# Altium schematic symbol library Schlib.SchLib: 24 symbols
Pins are listed as number, name and electrical type; pins without a type are passive.

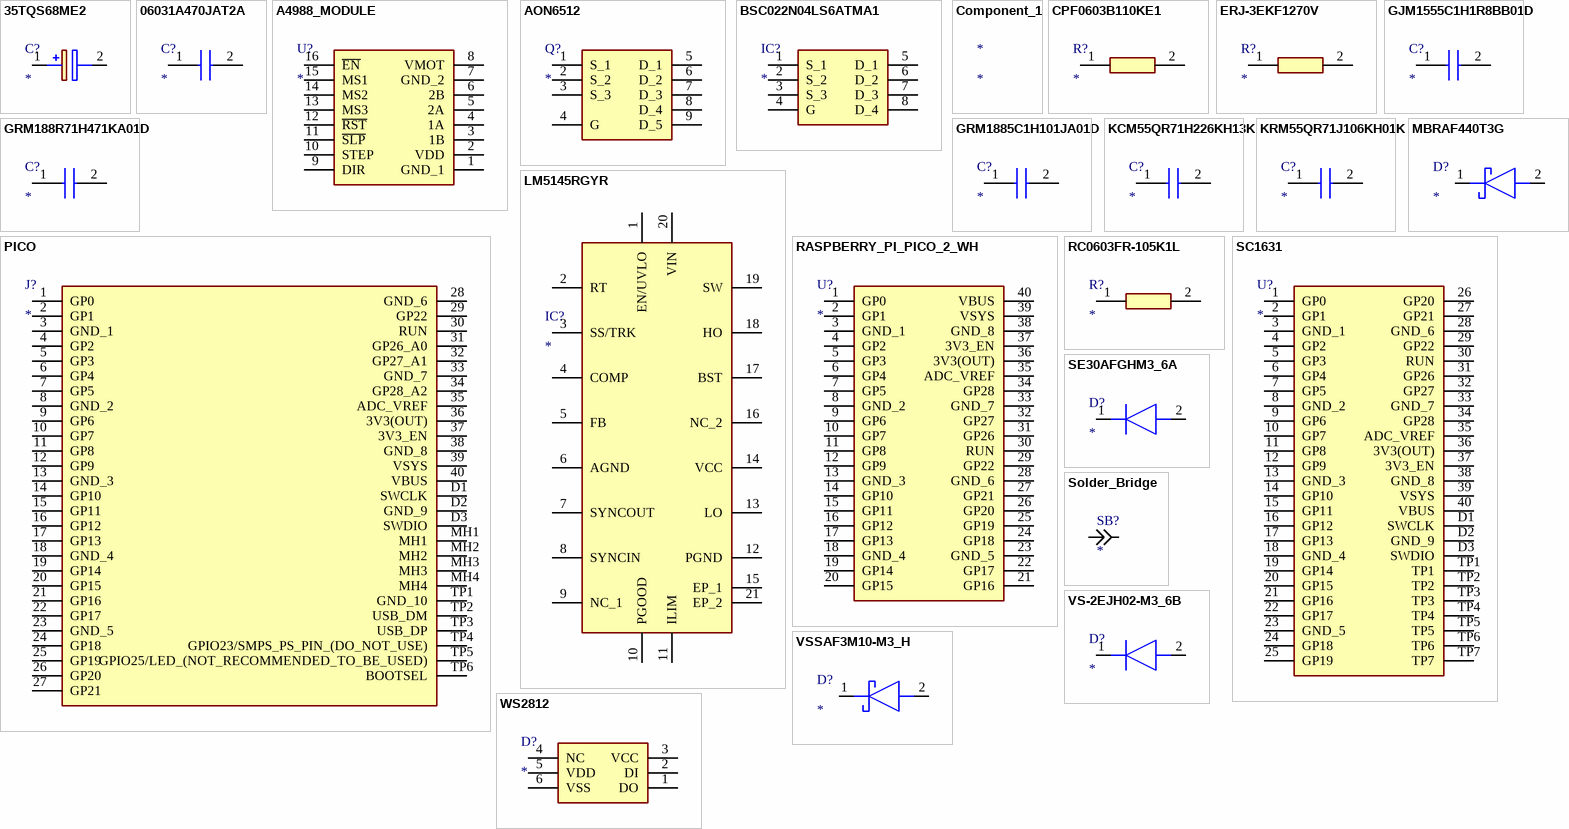
[diagram p0: symbols 35TQS68ME2 to WS2812]

## 35TQS68ME2
designator C?
Capacitor Polarised; Manufacturer_Name: Panasonic; Manufacturer_Part_Number: 35TQS68ME2; Datasheet Link: https://industrial.panasonic.com/cdbs/www-data/pdf/AAA8000/AAA8000C80.pdf; Height: 2mm; Simulation Data: https://industrial.panasonic.com/content/data/CP/files/35TQS68ME2.zip
footprint 35TQS68ME2
pins: 1 +, 2 -

## 06031A470JAT2A
designator C?
Capacitor; Manufacturer_Name: Kyocera AVX; Manufacturer_Part_Number: 06031A470JAT2A; Datasheet Link: https://componentsearchengine.com/Datasheets/1/06031A100FAT2A.pdf; Height: 0.9mm; Mouser Part Number: 581-06031A470J; Mouser Price/Stock: https://www.mouser.co.uk/ProductDetail/AVX/06031A470JAT2A?qs=nNiE93Mz5OcjglFzY7DsjQ%3D%3D; Arrow Part Number: 06031A470JAT2A; Arrow Price/Stock: https://www.arrow.com/en/products/06031a470jat2a/avx
footprint CAPC1608X90N
pins: 1, 2

## A4988_MODULE
designator U?
Undefined or Miscellaneous; Manufacturer_Name: Pololu; Manufacturer_Part_Number: A4988 MODULE; Datasheet Link: https://www.pololu.com/file/0J1082/a4988-stepper-motor-driver-carrier-dimension-diagram.pdf; Height: 3.37mm
footprint A4988MODULE
pins: 1 GND_1, 2 VDD, 3 1B, 4 1A, 5 2A, 6 2B, 7 GND_2, 8 VMOT, 9 DIR, 10 STEP, 11 ~{SLP}, 12 ~{RST}, 13 MS3, 14 MS2, 15 MS1, 16 ~{EN}

## AON6512
designator Q?
MOSFET (P-Channel); Manufacturer_Name: Alpha & Omega Semiconductors; Manufacturer_Part_Number: AON6512; Datasheet Link: http://aosmd.com/res/data_sheets/AON6512.pdf; Arrow Part Number: AON6512; Arrow Price/Stock: https://www.arrow.com/en/products/aon6512/alpha-and-omega-semiconductor?region=nac
footprint AON6414A
pins: 1 S_1, 2 S_2, 3 S_3, 4 G, 5 D_1, 6 D_2, 7 D_3, 8 D_4, 9 D_5

## BSC022N04LS6ATMA1
designator IC?
Integrated Circuit; Manufacturer_Part_Number: BSC022N04LS6ATMA1; Description: Infineon; Datasheet Link: https://www.infineon.com/dgdl/Infineon-BSC022N04LS6-DS-v02_00-EN.pdf?fileId=5546d462689a790c0168bd1094dc481b; Manufacturer_Name: Infineon; Mouser Part Number: 726-BSC022N04LS6ATMA; Mouser Price/Stock: https://www.mouser.co.uk/ProductDetail/Infineon-Technologies/BSC022N04LS6ATMA1?qs=l7cgNqFNU1izYC0x3qYbsQ%3D%3D; Arrow Part Number: BSC022N04LS6ATMA1; Arrow Price/Stock: https://www.arrow.com/en/products/bsc022n04ls6atma1/infineon-technologies-ag?region=nac
footprint BSC059N04LS6ATMA1
pins: 1 S_1, 2 S_2, 3 S_3, 4 G, 5 D_1, 6 D_2, 7 D_3, 8 D_4

## Component_1
designator *

## CPF0603B110KE1
designator R?
Resistor; Manufacturer_Name: TE Connectivity; Manufacturer_Part_Number: CPF0603B110KE1; Datasheet Link: http://www.farnell.com/datasheets/1786775.pdf; Height: 0.55mm; Mouser Part Number: 279-CPF0603B110KE1; Mouser Price/Stock: https://www.mouser.com/Search/Refine.aspx?Keyword=279-CPF0603B110KE1
footprint RESC1608X55N
pins: 1, 2

## ERJ-3EKF1270V
designator R?
Resistor; Manufacturer_Name: Panasonic; Manufacturer_Part_Number: ERJ-3EKF1270V; Datasheet Link: http://industrial.panasonic.com/cdbs/www-data/pdf/RDA0000/AOA0000C86.pdf; Height: 0.55mm; Mouser Part Number: 667-ERJ-3EKF1270V; Mouser Price/Stock: https://www.mouser.co.uk/ProductDetail/Panasonic/ERJ-3EKF1270V?qs=iBwFsHVUAOcgnyLg6A6PxQ%3D%3D; Arrow Part Number: ERJ-3EKF1270V; Arrow Price/Stock: https://www.arrow.com/en/products/erj3ekf1270v/panasonic
footprint RESC1608X55N
pins: 1, 2

## GJM1555C1H1R8BB01D
designator C?
Capacitor; Manufacturer_Name: Murata Electronics; Manufacturer_Part_Number: GJM1555C1H1R8BB01D; Datasheet Link: https://search.murata.co.jp/Ceramy/image/img/A01X/G101/ENG/GJM1555C1H1R8BB01-01A.pdf; Height: 0.55mm; Mouser Part Number: 81-GJM1555C1H1R8BB01; Mouser Price/Stock: https://www.mouser.co.uk/ProductDetail/Murata-Electronics/GJM1555C1H1R8BB01D?qs=uMOEPI8dpz3WIjWI0mj0rg%3D%3D; Arrow Part Number: GJM1555C1H1R8BB01D; Arrow Price/Stock: https://www.arrow.com/en/products/gjm1555c1h1r8bb01d/murata-manufacturing
footprint CAPC1005X55N
pins: 1, 2

## GRM188R71H471KA01D
designator C?
Capacitor; Manufacturer_Name: Murata Electronics; Manufacturer_Part_Number: GRM188R71H471KA01D; Datasheet Link: https://search.murata.co.jp/Ceramy/image/img/A01X/G101/ENG/GRM188R71H471KA01-01.pdf; Height: 0.9mm; Mouser Part Number: 81-GRM39X471K50D; Mouser Price/Stock: https://www.mouser.co.uk/ProductDetail/Murata-Electronics/GRM188R71H471KA01D?qs=WWniysbtxUL3ibKlWJP%2Fxg%3D%3D; Arrow Part Number: GRM188R71H471KA01D; Arrow Price/Stock: https://www.arrow.com/en/products/grm188r71h471ka01d/murata-manufacturing
footprint CAPC1608X90N
pins: 1, 2

## GRM1885C1H101JA01D
designator C?
Capacitor; Manufacturer_Name: Murata Electronics; Manufacturer_Part_Number: GRM1885C1H101JA01D; Datasheet Link: https://search.murata.co.jp/Ceramy/image/img/A01X/G101/ENG/GRM1885C1H101JA01-01A.pdf; Height: 0.9mm; Mouser Part Number: 81-GRM39C101J50; Mouser Price/Stock: https://www.mouser.co.uk/ProductDetail/Murata-Electronics/GRM1885C1H101JA01D?qs=H3lwsW1hsDt1I4guwPQ00A%3D%3D; Arrow Part Number: GRM1885C1H101JA01D; Arrow Price/Stock: https://www.arrow.com/en/products/grm1885c1h101ja01d/murata-manufacturing?utm_currency=USD&region=europe
footprint CAPC1608X90N
pins: 1, 2

## KCM55QR71H226KH13K
designator C?
Capacitor; Manufacturer_Name: Murata Electronics; Manufacturer_Part_Number: KCM55QR71H226KH13K; Datasheet Link: https://search.murata.co.jp/Ceramy/image/img/A01X/G101/ENG/KCM55_E.pdf; Height: 3.9mm; Mouser Part Number: 81-KCM5QR71H226KH13K; Mouser Price/Stock: https://www.mouser.co.uk/ProductDetail/Murata-Electronics/KCM55QR71H226KH13K?qs=By6Nw2ByBD05%2F38SiX9q2w%3D%3D; Arrow Part Number: KCM55QR71H226KH13K; Arrow Price/Stock: https://www.arrow.com/en/products/kcm55qr71h226kh13k/murata-manufacturing?region=nac
footprint CAPC6153X390N
pins: 1, 2

## KRM55QR71J106KH01K
designator C?
Capacitor; Manufacturer_Name: Murata Electronics; Manufacturer_Part_Number: KRM55QR71J106KH01K; Datasheet Link: https://search.murata.co.jp/Ceramy/image/img/A01X/G101/ENG/KRM55_25V-100V_E.pdf; Height: 3.9mm; Mouser Part Number: 81-KRM55QR71J106KH1K; Mouser Price/Stock: https://www.mouser.co.uk/ProductDetail/Murata-Electronics/KRM55QR71J106KH01K?qs=TpyF2b7C1Q%252BAGaaMhvrt1g%3D%3D; Arrow Part Number: KRM55QR71J106KH01K; Arrow Price/Stock: https://www.arrow.com/en/products/krm55qr71j106kh01k/murata-manufacturing
footprint CAPC6153X390N
pins: 1, 2

## LM5145RGYR
designator IC?
Integrated Circuit; Manufacturer_Name: Texas Instruments; Manufacturer_Part_Number: LM5145RGYR; Datasheet Link: http://www.ti.com/lit/ds/symlink/lm5145.pdf?HQS=TI-null-null-mousermode-df-pf-null-wwe&DCM=yes&ref_url=https%3A%2F%2Fwww.mouser.com%2F; Mouser Part Number: 595-LM5145RGYR; Mouser Price/Stock: https://www.mouser.co.uk/ProductDetail/Texas-Instruments/LM5145RGYR?qs=gt1LBUVyoHkKVoSLabi7ZQ%3D%3D; Arrow Part Number: LM5145RGYR; Arrow Price/Stock: https://www.arrow.com/en/products/lm5145rgyr/texas-instruments?region=nac
footprint RGY0020B
pins: 1 EN/UVLO, 2 RT, 3 SS/TRK, 4 COMP, 5 FB, 6 AGND, 7 SYNCOUT, 8 SYNCIN, 9 NC_1, 10 PGOOD, 11 ILIM, 12 PGND, 13 LO, 14 VCC, 15 EP_1, 16 NC_2, 17 BST, 18 HO, 19 SW, 20 VIN, 21 EP_2

## MBRAF440T3G
designator D?
Schottky Diode; Manufacturer_Name: onsemi; Manufacturer_Part_Number: MBRAF440T3G; Datasheet Link: https://www.onsemi.com/pub/Collateral/MBRAF440T3-D.PDF; Height: 1.1mm; Mouser Part Number: 863-MBRAF440T3G; Mouser Price/Stock: https://www.mouser.co.uk/ProductDetail/onsemi/MBRAF440T3G?qs=l5F7KFZg3O5ru1%252BwaFeLQg%3D%3D; Arrow Part Number: MBRAF440T3G; Arrow Price/Stock: https://www.arrow.com/en/products/mbraf440t3g/on-semiconductor?region=nac
footprint SODFL5126X110N
pins: 1 K, 2 A

## PICO
designator J?
Connector; Manufacturer_Name: RASPBERRY-PI; Manufacturer_Part_Number: PICO; Datasheet Link: https://datasheets.raspberrypi.org/pico/pico_datasheet.pdf; Height: 1mm
footprint PICO
pins: 1 GP0, 2 GP1, 3 GND_1, 4 GP2, 5 GP3, 6 GP4, 7 GP5, 8 GND_2, 9 GP6, 10 GP7, 11 GP8, 12 GP9, 13 GND_3, 14 GP10, 15 GP11, 16 GP12, 17 GP13, 18 GND_4, 19 GP14, 20 GP15, 21 GP16, 22 GP17, 23 GND_5, 24 GP18, 25 GP19, 26 GP20, 27 GP21, 28 GND_6, 29 GP22, 30 RUN, 31 GP26_A0, 32 GP27_A1, 33 GND_7, 34 GP28_A2, 35 ADC_VREF, 36 3V3(OUT), 37 3V3_EN, 38 GND_8, 39 VSYS, 40 VBUS, D1 SWCLK, D2 GND_9, D3 SWDIO, MH1, MH2, MH3, MH4, TP1 GND_10, TP2 USB_DM, TP3 USB_DP, TP4 GPIO23/SMPS_PS_PIN_(DO_NOT_USE), TP5 GPIO25/LED_(NOT_RECOMMENDED_TO_BE_USED), TP6 BOOTSEL

## RASPBERRY_PI_PICO_2_WH
designator U?
Undefined or Miscellaneous; Manufacturer_Name: RASPBERRY-PI; Manufacturer_Part_Number: RASPBERRY PI PICO 2 WH; Datasheet Link: https://datasheets.raspberrypi.com/pico/pico-2-product-brief.pdf; Height: 5mm
footprint RASPBERRYPIPICO2WH
pins: 1 GP0, 2 GP1, 3 GND_1, 4 GP2, 5 GP3, 6 GP4, 7 GP5, 8 GND_2, 9 GP6, 10 GP7, 11 GP8, 12 GP9, 13 GND_3, 14 GP10, 15 GP11, 16 GP12, 17 GP13, 18 GND_4, 19 GP14, 20 GP15, 21 GP16, 22 GP17, 23 GND_5, 24 GP18, 25 GP19, 26 GP20, 27 GP21, 28 GND_6, 29 GP22, 30 RUN, 31 GP26, 32 GP27, 33 GND_7, 34 GP28, 35 ADC_VREF, 36 3V3(OUT), 37 3V3_EN, 38 GND_8, 39 VSYS, 40 VBUS

## RC0603FR-105K1L
designator R?
Resistor; Manufacturer_Name: YAGEO; Manufacturer_Part_Number: RC0603FR-105K1L; Datasheet Link: https://www.mouser.com/datasheet/2/447/PYu_RC_Group_51_RoHS_L_11-1984063.pdf; Height: 0.55mm; Mouser Part Number: 603-RC0603FR-105K1L; Mouser Price/Stock: https://www.mouser.co.uk/ProductDetail/YAGEO/RC0603FR-105K1L?qs=qpJ%252B%252B%252Bdg6p362H%2FoHYJ5dQ%3D%3D; Arrow Part Number: RC0603FR-105K1L; Arrow Price/Stock: https://www.arrow.com/en/products/rc0603fr-105k1l/yageo?utm_currency=USD&region=nac
footprint RESC1608X55N
pins: 1, 2

## SC1631
designator U?
Undefined or Miscellaneous; Manufacturer_Name: RASPBERRY-PI; Manufacturer_Part_Number: SC1631; Datasheet Link: https://datasheets.raspberrypi.com/pico/pico-2-datasheet.pdf; Height: 4.5mm; Mouser Part Number: 358-SC1631; Mouser Price/Stock: https://www.mouser.co.uk/ProductDetail/Raspberry-Pi/SC1631?qs=IKkN%2F947nfBrS4NBdUxzKQ%3D%3D
footprint SC1631
pins: 1 GP0, 2 GP1, 3 GND_1, 4 GP2, 5 GP3, 6 GP4, 7 GP5, 8 GND_2, 9 GP6, 10 GP7, 11 GP8, 12 GP9, 13 GND_3, 14 GP10, 15 GP11, 16 GP12, 17 GP13, 18 GND_4, 19 GP14, 20 GP15, 21 GP16, 22 GP17, 23 GND_5, 24 GP18, 25 GP19, 26 GP20, 27 GP21, 28 GND_6, 29 GP22, 30 RUN, 31 GP26, 32 GP27, 33 GND_7, 34 GP28, 35 ADC_VREF, 36 3V3(OUT), 37 3V3_EN, 38 GND_8, 39 VSYS, 40 VBUS, D1 SWCLK, D2 GND_9, D3 SWDIO, TP1, TP2, TP3, TP4, TP5, TP6, TP7

## SE30AFGHM3_6A
designator D?
Diode; Manufacturer_Name: Vishay; Manufacturer_Part_Number: SE30AFGHM3/6A; Datasheet Link: http://www.vishay.com/docs/89955/se30afb.pdf; Height: 1mm; Mouser Part Number: 78-SE30AFGHM3/6A; Mouser Price/Stock: https://www.mouser.co.uk/ProductDetail/Vishay-General-Semiconductor/SE30AFGHM3-6A?qs=psQQRyPhP5XCNSFJnZIb9g%3D%3D
footprint SODFL5226X100N
pins: 1 K, 2 A

## Solder_Bridge
designator SB?
footprint Solderbridge
pins: 1, 2

## VS-2EJH02-M3_6B
designator D?
Diode; Manufacturer_Name: Vishay; Manufacturer_Part_Number: VS-2EJH02-M3/6B; Datasheet Link: http://www.vishay.com/docs/94881/vs-2ejh02-m3.pdf; Height: 1mm; Mouser Part Number: 78-VS-2EJH02-M3/6B; Mouser Price/Stock: https://www.mouser.com/Search/Refine.aspx?Keyword=78-VS-2EJH02-M3%2F6B; Arrow Part Number: VS-2EJH02-M3/6B; Arrow Price/Stock: https://www.arrow.com/en/products/vs-2ejh02-m36b/vishay
footprint SODFL5226X100N
pins: 1 K, 2 A

## VSSAF3M10-M3_H
designator D?
Schottky Diode; Manufacturer_Name: Vishay; Manufacturer_Part_Number: VSSAF3M10-M3/H; Datasheet Link: https://www.vishay.com/docs/87507/vssaf3m10.pdf; Height: 1mm; Mouser Part Number: 78-VSSAF3M10-M3/H; Mouser Price/Stock: https://www.mouser.co.uk/ProductDetail/Vishay-General-Semiconductor/VSSAF3M10-M3-H?qs=ECv811tYSNjzBSZPydhz4A%3D%3D; Arrow Part Number: VSSAF3M10-M3/H; Arrow Price/Stock: https://www.arrow.com/en/products/vssaf3m10-m3h/vishay
footprint SODFL5226X100N
pins: 1 K, 2 A

## WS2812
designator D?
Diode; Manufacturer_Name: Worldsemi; Manufacturer_Part_Number: WS2812; Datasheet Link: https://www.adafruit.com/datasheets/WS2812.pdf
footprint WS2812
pins: 1 DO, 2 DI, 3 VCC, 4 NC, 5 VDD, 6 VSS